# Altium schematic symbol library PHOTOMOS VO1400AEFTR.Schlib: 1 symbol
Pins are listed as number, name and electrical type; pins without a type are passive.

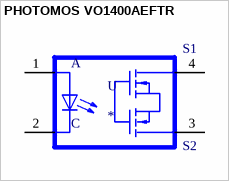
[diagram p0: symbol PHOTOMOS VO1400AEFTR]

## PHOTOMOS VO1400AEFTR
designator U
Solid State SPST-NO _1 Form A_ 4-SOP _0.173, 4.40mm_; MP: VO1400AEFTR; MF: Vishay; Digi-Key_Purchase_URL: https://www.digikey.com/product-detail/en/vishay-semiconductor-opto-division/VO1400AEFTR/VO1400AEFCT-ND/4743822?utm_source=snapeda&utm_medium=aggregator&utm_campaign=symbol; SnapEDA_Link: https://www.snapeda.com/parts/VO1400AEFTR/Vishay%20Semiconductor%20Opto%20Division/view-part/427521/?ref=snap; Value: *; Digi-Key_Part_Number: VO1400AEFCT-ND; Package: SOP-4 Vishay; ComponentLink1Description: LCSC - Vishay Intertech VO1400AEFTR; ComponentLink1URL: https://lcsc.com/product-detail/Solid-State-Relays_Vishay-Intertech-VO1400AEFTR_C142551.html; LCSC Part #: C142551
footprint SOIC254P695X242-4N
pins: 1 A, 2 C, 3 S2, 4 S1